# Altium footprint library Zig-Zag-In-Line Package Odd Lead Number.PcbLib: 1 footprints
Each footprint in its own frame and in the unit in brackets; x right, y up, seen from the top. Pads: shape width x height; smd on the part's side, far side on the other; paste and mask are expansions set on the pad; w line width, h text height; cw(c..) or ccw(c..) is an arc to the next point about the centre after c.
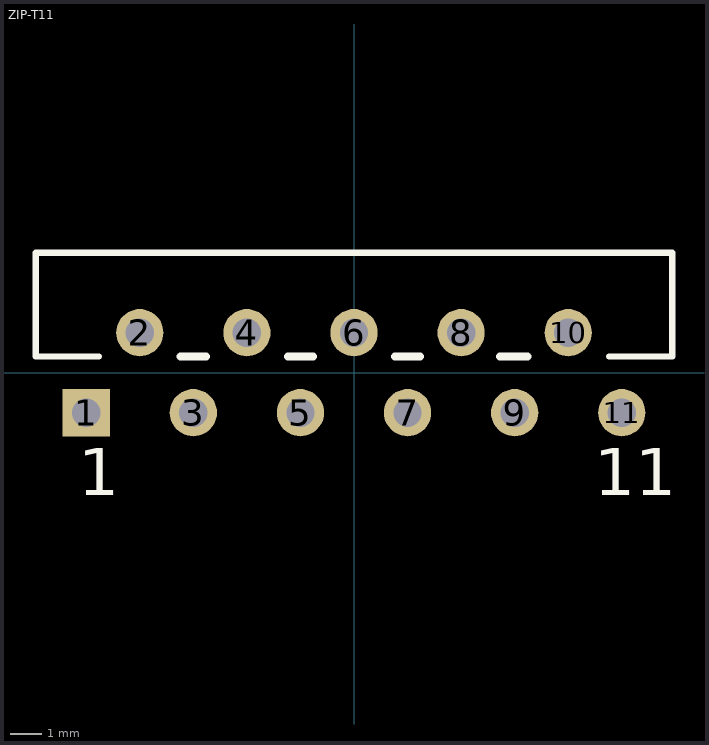
[diagram p0: the footprint, top view; thin cyan lines are the x and y axes]

## ZIP-T11 [mm] "In-Line; 11 Zig-Zag Leads; Body 20 x 3.25mm; Pitch 1.7 mm"
height 14.4
pads (11):
  rect 1.5x1.5 hole 0.9: 1(-8.5,-1.27)
  round 1.5 hole 0.9: 2(-6.8,1.27) 3(-5.1,-1.27) 4(-3.4,1.27) 5(-1.7,-1.27) 6(0,1.27) 7(1.7,-1.27) 8(3.4,1.27) 9(5.1,-1.27) 10(6.8,1.27) 11(8.5,-1.27)
Top Overlay:
  lines w0.2: -8.1,0.51 -10.1,0.51 -10.1,3.81 10.1,3.81 10.1,0.51 8.1,0.51
  lines w0.254: -5.5,0.51 -4.7,0.51 ; -2.1,0.51 -1.3,0.51 ; 1.3,0.51 2.1,0.51 ; 4.632,0.51 5.5,0.51
  text "11" at 7.625,-3.895 h1.5
  text "1" at -8.75,-3.895 h1.5